# EAGLE library part DSPIC30F4011 (library LM4880)
dsPIC30F4012 Footprint for UAVv2x, not tested
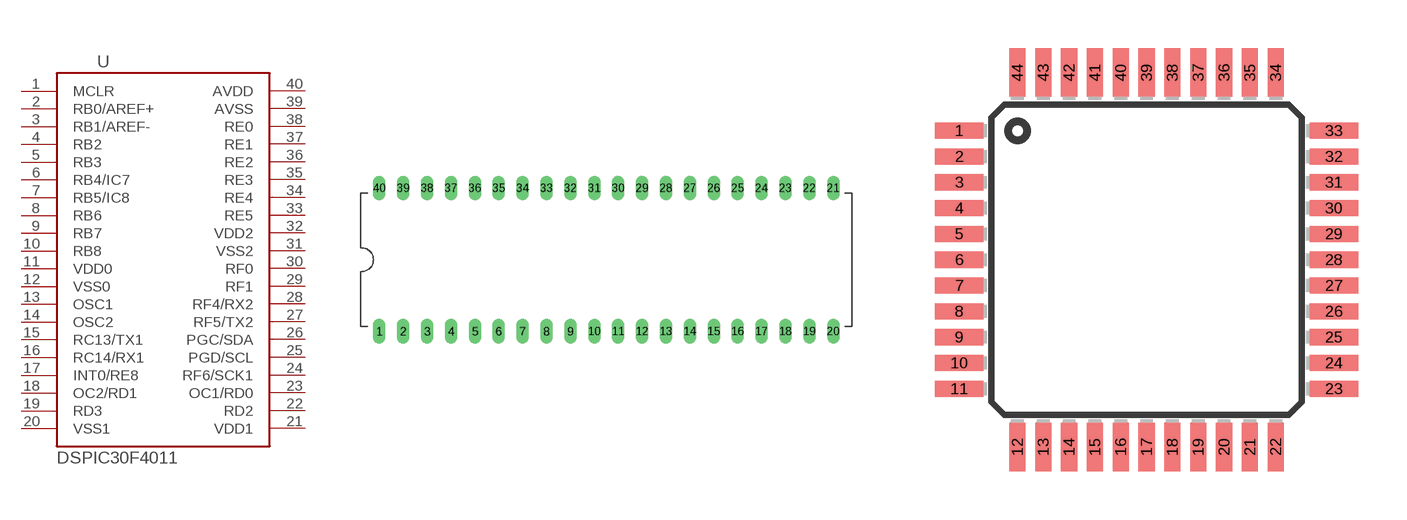
[diagram p154: symbol with the pads of DIL40; footprints DIL40, TQFP44]

Designator prefix -

## DSPIC30F4011DIL  [DIL40]
1  MCLR
2  RB0/AREF+
3  RB1/AREF-
4  RB2
5  RB3
6  RB4/IC7
7  RB5/IC8
8  RB6
9  RB7
10  RB8
11  VDD0
12  VSS0
13  OSC1
14  OSC2
15  RC13/TX1
16  RC14/RX1
17  INT0/RE8
18  OC2/RD1
19  RD3
20  VSS1
21  VDD1
22  RD2
23  OC1/RD0
24  RF6/SCK1
25  PGD/SCL
26  PGC/SDA
27  RF5/TX2
28  RF4/RX2
29  RF1
30  RF0
31  VSS2
32  VDD2
33  RE5
34  RE4
35  RE3
36  RE2
37  RE1
38  RE0
39  AVSS
40  AVDD

## DSPIC30F4011  [TQFP44]
1  PGC/SDA
2  RF5/TX2
3  RF4/RX2
4  RF1
5  RF0
6  VSS0
7  VDD0
8  RE5
9  RE4
10  RE3
11  RE2
14  RE1
15  RE0
16  AVSS
17  AVDD
18  MCLR
19  RB0/AREF+
20  RB1/AREF-
21  RB2
22  RB3
23  RB4/IC7
24  RB5/IC8
25  RB6
26  RB7
27  RB8
28  VDD1
29  VSS1
30  OSC1
31  OSC2
32  RC13/TX1
35  RC14/RX1
36  INT0/RE8
37  OC2/RD1
38  RD3
39  VSS2
40  VDD2
41  RD2
42  OC1/RD0
43  RF6/SCK1
44  PGD/SCL

## Footprint DIL40 (pad centres in mm)
Dual In Line Package: 40-pin PDIP
drill 0.8 long: 1 -24.13,-7.62; 2 -21.59,-7.62; 3 -19.05,-7.62; 4 -16.51,-7.62; 5 -13.97,-7.62; 6 -11.43,-7.62; 7 -8.89,-7.62; 8 -6.35,-7.62; 9 -3.81,-7.62; 10 -1.27,-7.62; 11 1.27,-7.62; 12 3.81,-7.62; 13 6.35,-7.62; 14 8.89,-7.62; 15 11.43,-7.62; 16 13.97,-7.62; 17 16.51,-7.62; 18 19.05,-7.62; 19 21.59,-7.62; 20 24.13,-7.62; 21 24.13,7.62; 22 21.59,7.62; 23 19.05,7.62; 24 16.51,7.62; 25 13.97,7.62; 26 11.43,7.62; 27 8.89,7.62; 28 6.35,7.62; 29 3.81,7.62; 30 1.27,7.62; 31 -1.27,7.62; 32 -3.81,7.62; 33 -6.35,7.62; 34 -8.89,7.62; 35 -11.43,7.62; 36 -13.97,7.62; 37 -16.51,7.62; 38 -19.05,7.62; 39 -21.59,7.62; 40 -24.13,7.62

## Footprint TQFP44 (pad centres in mm)
smd 1.5 x 0.5: 1 -5.8,4; 2 -5.8,3.2; 3 -5.8,2.4; 4 -5.8,1.6; 5 -5.8,0.8; 6 -5.8,0; 7 -5.8,-0.8; 8 -5.8,-1.6; 9 -5.8,-2.4; 10 -5.8,-3.2; 11 -5.8,-4; 23 5.8,-4; 24 5.8,-3.2; 25 5.8,-2.4; 26 5.8,-1.6; 27 5.8,-0.8; 28 5.8,0; 29 5.8,0.8; 30 5.8,1.6; 31 5.8,2.4; 32 5.8,3.2; 33 5.8,4
smd 0.5 x 1.5: 12 -4,-5.8; 13 -3.2,-5.8; 14 -2.4,-5.8; 15 -1.6,-5.8; 16 -0.8,-5.8; 17 0,-5.8; 18 0.8,-5.8; 19 1.6,-5.8; 20 2.4,-5.8; 21 3.2,-5.8; 22 4,-5.8; 34 4,5.8; 35 3.2,5.8; 36 2.4,5.8; 37 1.6,5.8; 38 0.8,5.8; 39 0,5.8; 40 -0.8,5.8; 41 -1.6,5.8; 42 -2.4,5.8; 43 -3.2,5.8; 44 -4,5.8